# Altium footprint library uMote.PcbLib: 14 footprints
Each footprint in its own frame and in the unit in brackets; x right, y up, seen from the top. Pads: shape width x height; smd on the part's side, far side on the other; paste and mask are expansions set on the pad; w line width, h text height; cw(c..) or ccw(c..) is an arc to the next point about the centre after c.
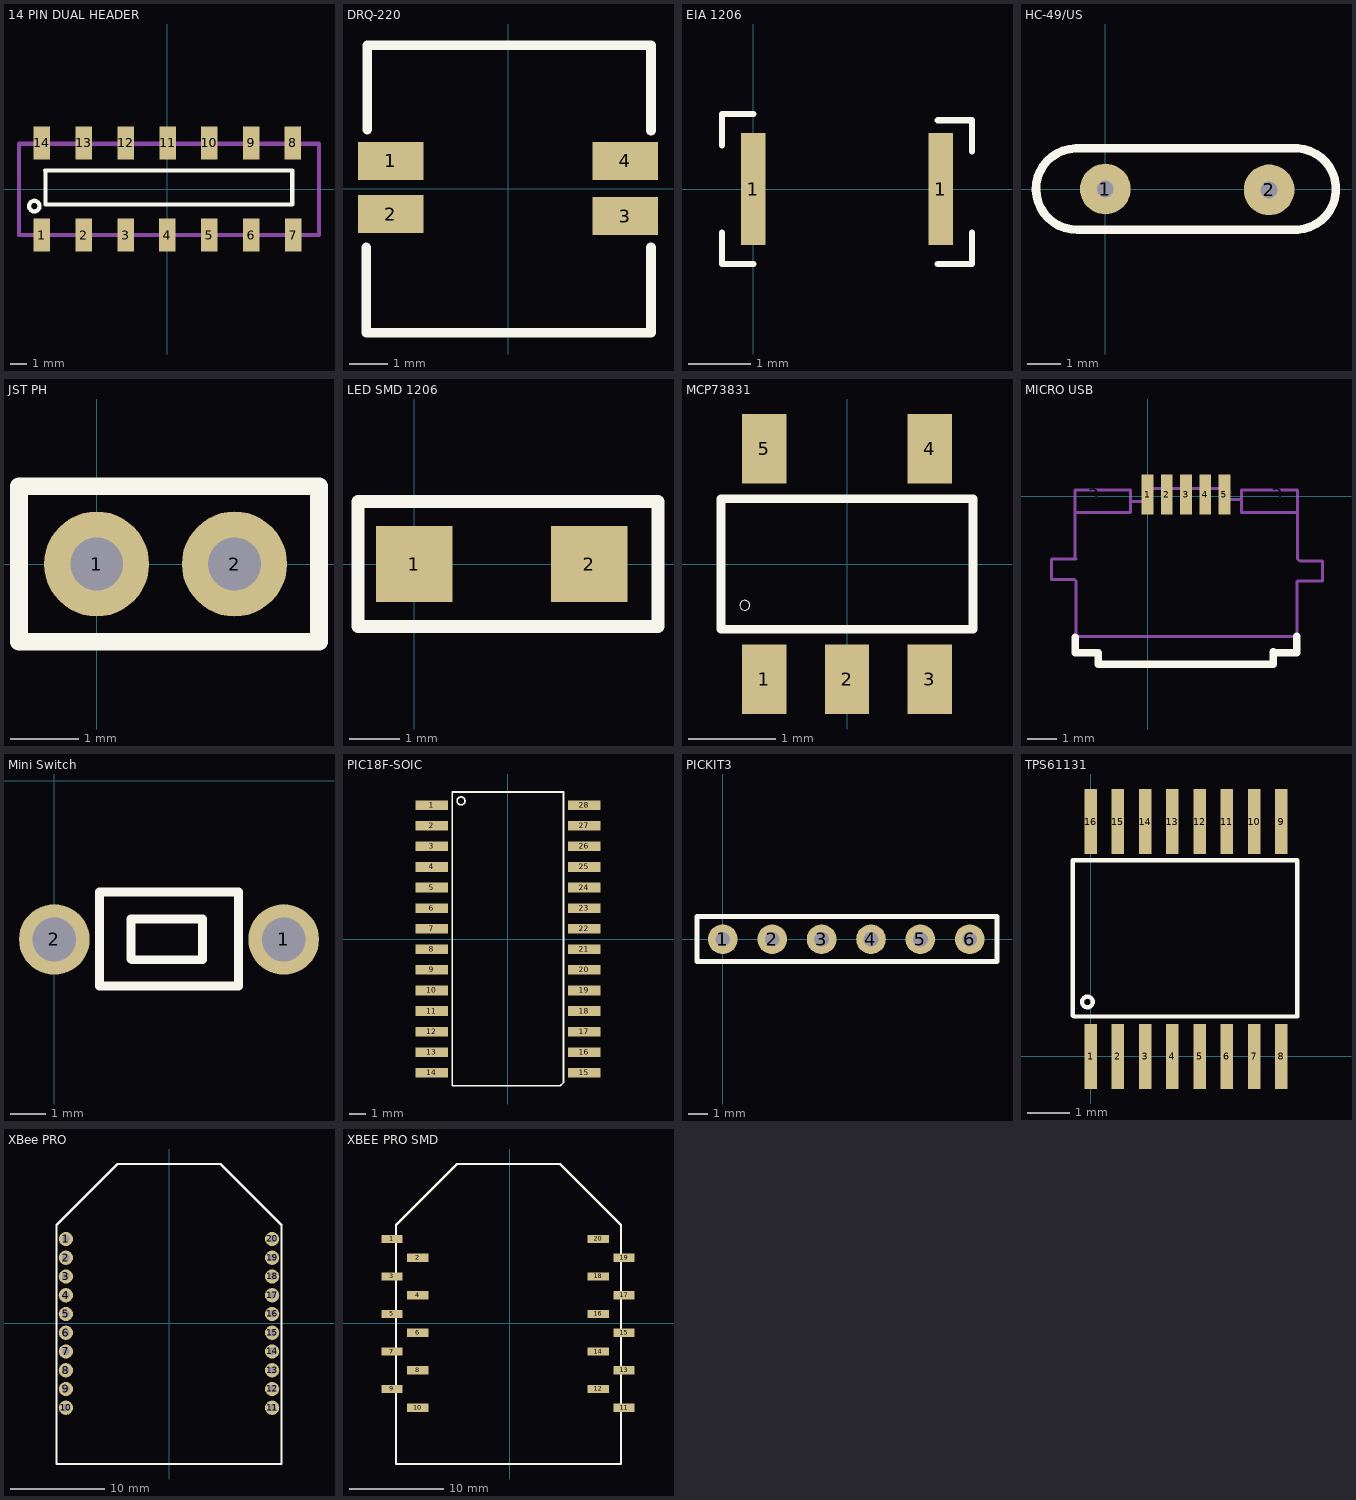
[diagram p0: the footprints below, top view; thin cyan lines are the x and y axes]

## 14 PIN DUAL HEADER [mm]
pads (14):
  rect 1x2 smd: 1(-7.62,-2.788) 2(-5.08,-2.788) 3(-2.54,-2.788) 4(0,-2.788) 5(2.54,-2.788) 6(5.08,-2.788) 7(7.62,-2.788) 8(7.595,2.788) 9(5.08,2.788) 10(2.545,2.788) 11(0.005,2.788) 12(-2.535,2.788) 13(-5.075,2.788) 14(-7.615,2.788)
Top Overlay:
  circle w0.254: c-8.065,-1.038 r0.32
  lines w0.254: -7.42,1.112 7.555,1.112 7.555,-0.938 -7.395,-0.938 -7.395,1.112
Mechanical 1:
  lines w0.254: -8.995,-2.788 -8.995,2.737 9.18,2.737 9.18,-2.788 -8.995,-2.788
3D body: height 2, standoff 1, extent -8.995,-2.788 9.03,2.737

## DRQ-220 [mm]
pads (4):
  rect 1.73x1 smd: 1(-3.085,0.725) 2(-3.085,-0.675) 3(3.085,-0.725) 4(3.085,0.725)
Top Overlay:
  lines w0.254: -3.735,-1.55 -3.735,-3.8 3.765,-3.8 3.765,-1.55 ; -3.71,1.55 -3.71,3.775 3.765,3.775 3.765,1.525
3D body: height 1, standoff 0, extent -3.51,-3.65 3.54,3.575
3D body: height 4.45, standoff 1, extent -2.878,-2.93 2.908,2.855

## EIA 1206 [mm]
pads (2):
  rect 0.4x1.8 smd: 1(0,0) 1(3,0)
Top Overlay:
  lines w0.1: -0.5,-0.7 -0.5,-1.2 0,-1.2 ; -0.5,0.7 -0.5,1.2 0,1.2 ; 2.95,-1.2 3.5,-1.2 3.5,-0.7 ; 2.95,1.1 3.5,1.1 3.5,0.6

## HC-49/US [mm]
pads (2):
  round 1.5 hole 0.5: 1(0,0) 2(4.85,-0.025)
Top Overlay:
  lines w0.254: -0.875,1.2 ccw(c-0.85,0) -0.825,-1.2 5.7,-1.2 ccw(c5.625,0) 5.7,1.2 -0.875,1.2

## JST PH [mil]
pads (2):
  round 60 hole 30: 1(0,0) 2(78.74,0)
Top Overlay:
  lines w10: 126.97,44.29 -44.29,44.29 -44.29,-44.29 126.97,-44.29 126.97,44.29 ; 126.97,44.29 126.97,44.29

## LED SMD 1206 [mil]
pads (2):
  rect 60x60 smd: 1(0,0) 2(137.8,0)
Top Overlay:
  lines w10: -44.29,-49.21 191.93,-49.21 191.93,49.21 -44.29,49.21 -44.29,-49.21

## MCP73831 [mm]
pads (5):
  rect 0.51x0.8 smd: 1(-0.95,-1.325) 2(0,-1.325) 3(0.95,-1.325) 4(0.95,1.325) 5(-0.95,1.325)
Top Overlay:
  circle w0.01: c-1.175,-0.475 r0.056
  lines w0.1: -1.45,-0.75 -1.45,0.75 1.45,0.75 1.45,-0.75 -1.45,-0.75

## MICRO USB [mm]
pads (11):
  rect 0.4x1.35 smd: 1(0,0.048) 2(0.65,0.048) 3(1.3,0.048) 4(1.95,0.048) 5(2.6,0.048)
  rect 2.1x1.6 on Top Paste: 3(-1.8,0.025) 3(4.4,0.05)
  rect 1.8x1.9 on Top Paste: ""(-2.825,-2.35) ""(0.15,-2.35) ""(2.45,-2.35) ""(5.425,-2.4)
Top Overlay:
  lines w0.254: -2.45,-4.775 -2.45,-5.3 -1.675,-5.3 -1.675,-5.7 4.25,-5.7 4.25,-5.275 4.275,-5.3 5.05,-5.3 5.05,-4.75
Mechanical 1:
  lines w0.1: -2.45,-0.55 -0.575,-0.55 -0.575,0.2 -2.45,0.2 -2.45,-2.1 -2.425,-2.125 -3.225,-2.125 -3.25,-2.15 -3.25,-2.825 -2.475,-2.825 -2.425,-2.875 -2.425,-4.75 5.05,-4.75 5.05,-2.9 5.075,-2.875 5.925,-2.875 5.925,-2.2 5.15,-2.2 5.075,-2.125 5.075,-0.55 ; -0.55,-0.188 -0.038,-0.188 -0.025,-0.175 -0.025,0.25 2.6,0.25 2.6,-0.125 3.175,-0.125 ; 3.175,-0.125 3.175,-0.55 5.075,-0.55 ; 3.175,-0.125 3.175,0.2 5.075,0.2 5.075,-0.55
3D body: height 1, standoff 0, extent -3.25,-5.7 5.925,0.2

## Mini Switch [mm]
pads (2):
  round 2 hole 1.24: 1(6.5,-4.5) 2(0,-4.5)
Top Overlay:
  lines w0.254: 1.275,-5.825 1.275,-3.15 5.225,-3.15 5.225,-5.825 1.275,-5.825 ; 2.175,-5.05 2.2,-5.075 4.2,-5.075 4.2,-3.925 2.175,-3.925 2.175,-5.05
3D body: height 2, standoff 1, extent 1.275,-5.8 5.225,-3.175
3D body: height 2, standoff 1, extent 2.2,-5.025 4.2,-3.925

## PIC18F-SOIC [mm]
pads (28):
  rect 2x0.6 smd: 1(-4.7,8.255) 2(-4.7,6.985) 3(-4.7,5.715) 4(-4.7,4.445) 5(-4.7,3.175) 6(-4.7,1.905) 7(-4.7,0.635) 8(-4.7,-0.635) 9(-4.7,-1.905) 10(-4.7,-3.175) 11(-4.7,-4.445) 12(-4.7,-5.715) 13(-4.7,-6.985) 14(-4.7,-8.255) 15(4.7,-8.255) 16(4.7,-6.985) 17(4.7,-5.715) 18(4.7,-4.445) 19(4.7,-3.175) 20(4.7,-1.905) 21(4.7,-0.635) 22(4.7,0.635) 23(4.7,1.905) 24(4.7,3.175) 25(4.7,4.445) 26(4.7,5.715) 27(4.7,6.985) 28(4.7,8.255)
Top Overlay:
  circle w0.1: c-2.896,8.52 r0.246
  lines w0.1: -3.45,-9.055 -3.45,9.07 3.425,9.07 3.425,2.108 3.425,-2.867 3.425,-8.48 3.425,-8.855 3.225,-9.055 -3.45,-9.055

## PICKIT3 [mil]
pads (6):
  round 60 hole 30: 1(0,0) 2(100,0) 3(200,0) 4(300,0) 5(400,0) 6(500,0)
Top Overlay:
  lines w10: -52.17,-45.28 555.12,-45.28 555.12,46.26 -52.17,46.26 -52.17,-45.28

## TPS61131 [mm]
pads (16):
  rect 0.3x1.55 smd: 1(0,0) 2(0.65,0) 3(1.3,0) 4(1.95,0) 5(2.6,0) 6(3.25,0) 7(3.9,0) 8(4.55,0) 9(4.55,5.6) 10(3.9,5.6) 11(3.25,5.6) 12(2.6,5.6) 13(1.95,5.6) 14(1.3,5.6) 15(0.65,5.6) 16(0,5.6)
Top Overlay:
  circle w0.1: c-0.075,1.3 r0.127
  lines w0.1: -0.425,0.975 -0.425,4.675 4.925,4.675 4.925,0.95 -0.4,0.95 -0.425,0.975

## XBee PRO [mm]
pads (20):
  round 1.524 hole 0.8: 1(-11,9) 2(-11,7) 3(-11,5) 4(-11,3) 5(-11,1) 6(-11,-1) 7(-11,-3) 8(-11,-5) 9(-11,-7) 10(-11,-9) 11(11,-9) 12(11,-7) 13(11,-5) 14(11,-3) 15(11,-1) 16(11,1) 17(11,3) 18(11,5) 19(11,7) 20(11,9)
Top Overlay:
  lines w0.254: -12,-15 -12,9.5 -12,10 -12,10.5 -5.5,17 5.5,17 12,10.5 12,10 12,9.5 12,-15 -12,-15
3D body: height 10, standoff 5, extent -12,-15.075 12,17

## XBEE PRO SMD [mm]
pads (20):
  rect 2.29x0.9 smd: 1(-12.537,9) 2(-9.787,7) 3(-12.537,5) 4(-9.787,3) 5(-12.537,1) 6(-9.787,-1) 7(-12.537,-3) 8(-9.787,-5) 9(-12.537,-7) 10(-9.787,-9) 11(12.213,-9) 12(9.463,-7) 13(12.213,-5) 14(9.463,-3) 15(12.213,-1) 16(9.463,1) 17(12.213,3) 18(9.463,5) 19(12.213,7) 20(9.463,9)
Top Overlay:
  lines w0.254: -12.113,-15 -12.113,9.5 -12.113,10 -12.113,10.5 -5.613,17 5.388,17 11.887,10.5 11.887,10 11.887,9.5 11.887,-15 -12.113,-15
3D body: height 5, standoff 2, extent -12.125,-14.975 11.9,17